# Altium schematic symbol library B32776Z4406K000.SchLib: 1 symbol
Pins are listed as number, name and electrical type; pins without a type are passive.

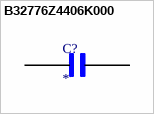
[diagram p0: symbol B32776Z4406K000]

## B32776Z4406K000
designator C?
40 ÂµF Film Capacitor 500V Polypropylene (PP), Metallized Radial - 4 Leads; MF: EPCOS; MP: B32776Z4406K000; SnapEDA_Link: https://www.snapeda.com/parts/B32776Z4406K000/EPCOS/view-part/?ref=snap; Package: NON-STANDARD-4 EPCOS; Value: *; Check_prices: https://www.snapeda.com/parts/B32776Z4406K000/EPCOS/view-part/?ref=eda
footprint CAP_B32776Z4406K000
pins: 1, 2